# EAGLE library part TSC2046_PW_16 (library vikc-ic)
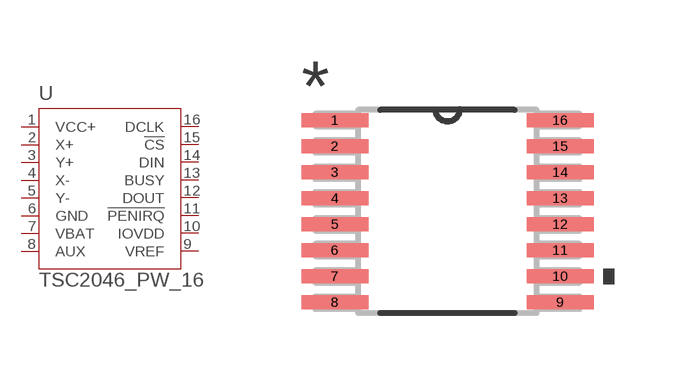
[diagram p5: symbol with the pads of PW16; footprint PW16]

Designator prefix U

## TSC2046_PW_16 (DATASHEETURL: http://www.ti.com/lit/gpn/TSC2046; FAMILY_NAME: TOUCH SCREEN CONTROLLER; GENERIC_PART_NUMBER: TSC2046; INDUSTRY_STD_PKG_TYPE: TSSOP; MANUFACTURER: Texas Instruments; PACKAGE_DESIGNATOR: PW; PIN_COUNT: 16)  [PW16]
1  VCC+  pwr
2  X+  in
3  Y+  in
4  X-  in
5  Y-  in
6  GND  pwr
7  VBAT  in
8  AUX  in
9  VREF  pwr
10  IOVDD
11  !PENIRQ  in
12  DOUT  out
13  BUSY  out
14  DIN  in
15  !CS  in
16  DCLK  in

## Footprint PW16 (pad centres in mm)
smd 1.676 x 0.356: 1 -2.819,2.275; 2 -2.819,1.625; 3 -2.819,0.975; 4 -2.819,0.325; 5 -2.819,-0.325; 6 -2.819,-0.975; 7 -2.819,-1.625; 8 -2.819,-2.275; 9 2.819,-2.275; 10 2.819,-1.625; 11 2.819,-0.975; 12 2.819,-0.325; 13 2.819,0.325; 14 2.819,0.975; 15 2.819,1.625; 16 2.819,2.275